# EAGLE library part MTFC4GMCDM (library circuit_tree)
IC
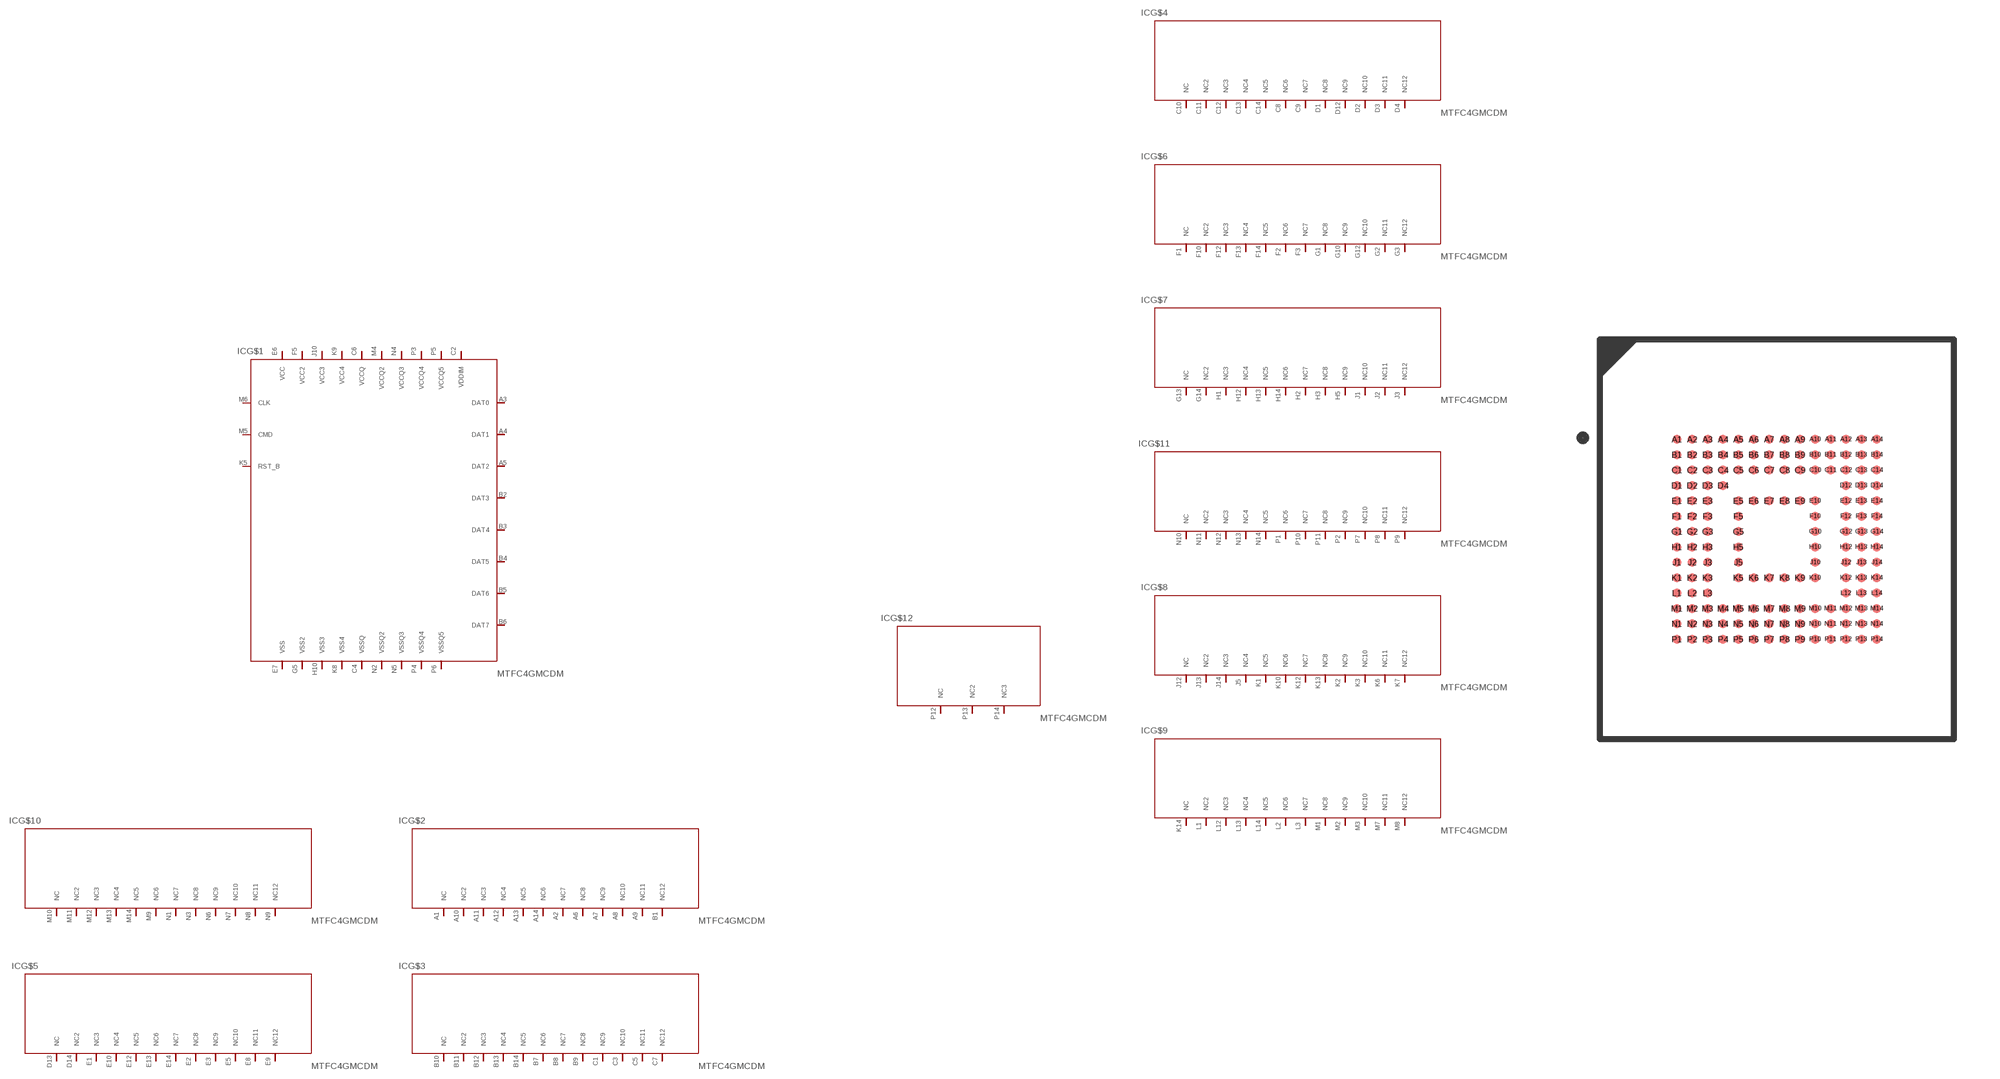
[diagram p4: symbol with the pads of TFBGA-153; footprint TFBGA-153]

Designator prefix IC; gates G$1=MTFC4GMCDM G$2=MTFC4GMCDM2 G$3=MTFC4GMCDM3 G$4=MTFC4GMCDM4 G$5=MTFC4GMCDM5 G$6=MTFC4GMCDM6 G$7=MTFC4GMCDM7 G$8=MTFC4GMCDM8 G$9=MTFC4GMCDM9 G$10=MTFC4GMCDM10 G$11=MTFC4GMCDM11 G$12=MTFC4GMCDM12

## MTFC4GMCDM  [TFBGA-153]
A1  G$2:NC  pas
A2  G$2:NC7  pas
A3  G$1:DAT0  pas
A4  G$1:DAT1  pas
A5  G$1:DAT2  pas
A6  G$2:NC8  pas
A7  G$2:NC9  pas
A8  G$2:NC10  pas
A9  G$2:NC11  pas
A10  G$2:NC2  pas
A11  G$2:NC3  pas
A12  G$2:NC4  pas
A13  G$2:NC5  pas
A14  G$2:NC6  pas
B1  G$2:NC12  pas
B2  G$1:DAT3  pas
B3  G$1:DAT4  pas
B4  G$1:DAT5  pas
B5  G$1:DAT6  pas
B6  G$1:DAT7  pas
B7  G$3:NC6  pas
B8  G$3:NC7  pas
B9  G$3:NC8  pas
B10  G$3:NC  pas
B11  G$3:NC2  pas
B12  G$3:NC3  pas
B13  G$3:NC4  pas
B14  G$3:NC5  pas
C1  G$3:NC9  pas
C2  G$1:VDDIM  pas
C3  G$3:NC10  pas
C4  G$1:VSSQ  pas
C5  G$3:NC11  pas
C6  G$1:VCCQ  pas
C7  G$3:NC12  pas
C8  G$4:NC6  pas
C9  G$4:NC7  pas
C10  G$4:NC  pas
C11  G$4:NC2  pas
C12  G$4:NC3  pas
C13  G$4:NC4  pas
C14  G$4:NC5  pas
D1  G$4:NC8  pas
D2  G$4:NC10  pas
D3  G$4:NC11  pas
D4  G$4:NC12  pas
D12  G$4:NC9  pas
D13  G$5:NC  pas
D14  G$5:NC2  pas
E1  G$5:NC3  pas
E2  G$5:NC8  pas
E3  G$5:NC9  pas
E5  G$5:NC10  pas
E6  G$1:VCC  pas
E7  G$1:VSS  pas
E8  G$5:NC11  pas
E9  G$5:NC12  pas
E10  G$5:NC4  pas
E12  G$5:NC5  pas
E13  G$5:NC6  pas
E14  G$5:NC7  pas
F1  G$6:NC  pas
F2  G$6:NC6  pas
F3  G$6:NC7  pas
F5  G$1:VCC2  pas
F10  G$6:NC2  pas
F12  G$6:NC3  pas
F13  G$6:NC4  pas
F14  G$6:NC5  pas
G1  G$6:NC8  pas
G2  G$6:NC11  pas
G3  G$6:NC12  pas
G5  G$1:VSS2  pas
G10  G$6:NC9  pas
G12  G$6:NC10  pas
G13  G$7:NC  pas
G14  G$7:NC2  pas
H1  G$7:NC3  pas
H2  G$7:NC7  pas
H3  G$7:NC8  pas
H5  G$7:NC9  pas
H10  G$1:VSS3  pas
H12  G$7:NC4  pas
H13  G$7:NC5  pas
H14  G$7:NC6  pas
J1  G$7:NC10  pas
J2  G$7:NC11  pas
J3  G$7:NC12  pas
J5  G$8:NC4  pas
J10  G$1:VCC3  pas
J12  G$8:NC  pas
J13  G$8:NC2  pas
J14  G$8:NC3  pas
K1  G$8:NC5  pas
K2  G$8:NC9  pas
K3  G$8:NC10  pas
K5  G$1:RST_B  pas
K6  G$8:NC11  pas
K7  G$8:NC12  pas
K8  G$1:VSS4  pas
K9  G$1:VCC4  pas
K10  G$8:NC6  pas
K12  G$8:NC7  pas
K13  G$8:NC8  pas
K14  G$9:NC  pas
L1  G$9:NC2  pas
L2  G$9:NC6  pas
L3  G$9:NC7  pas
L12  G$9:NC3  pas
L13  G$9:NC4  pas
L14  G$9:NC5  pas
M1  G$9:NC8  pas
M2  G$9:NC9  pas
M3  G$9:NC10  pas
M4  G$1:VCCQ2  pas
M5  G$1:CMD  pas
M6  G$1:CLK  pas
M7  G$9:NC11  pas
M8  G$9:NC12  pas
M9  G$10:NC6  pas
M10  G$10:NC  pas
M11  G$10:NC2  pas
M12  G$10:NC3  pas
M13  G$10:NC4  pas
M14  G$10:NC5  pas
N1  G$10:NC7  pas
N2  G$1:VSSQ2  pas
N3  G$10:NC8  pas
N4  G$1:VCCQ3  pas
N5  G$1:VSSQ3  pas
N6  G$10:NC9  pas
N7  G$10:NC10  pas
N8  G$10:NC11  pas
N9  G$10:NC12  pas
N10  G$11:NC  pas
N11  G$11:NC2  pas
N12  G$11:NC3  pas
N13  G$11:NC4  pas
N14  G$11:NC5  pas
P1  G$11:NC6  pas
P2  G$11:NC9  pas
P3  G$1:VCCQ4  pas
P4  G$1:VSSQ4  pas
P5  G$1:VCCQ5  pas
P6  G$1:VSSQ5  pas
P7  G$11:NC10  pas
P8  G$11:NC11  pas
P9  G$11:NC12  pas
P10  G$11:NC7  pas
P11  G$11:NC8  pas
P12  G$12:NC  pas
P13  G$12:NC2  pas
P14  G$12:NC3  pas

## Footprint TFBGA-153 (pad centres in mm)
smd 0.3 x 0.3: A1 -3.25,3.25; A2 -2.75,3.25; A3 -2.25,3.25; A4 -1.75,3.25; A5 -1.25,3.25; A6 -0.75,3.25; A7 -0.25,3.25; A8 0.25,3.25; A9 0.75,3.25; A10 1.25,3.25; A11 1.75,3.25; A12 2.25,3.25; A13 2.75,3.25; A14 3.25,3.25; B1 -3.25,2.75; B2 -2.75,2.75; B3 -2.25,2.75; B4 -1.75,2.75; B5 -1.25,2.75; B6 -0.75,2.75; B7 -0.25,2.75; B8 0.25,2.75; B9 0.75,2.75; B10 1.25,2.75; B11 1.75,2.75; B12 2.25,2.75; B13 2.75,2.75; B14 3.25,2.75; C1 -3.25,2.25; C2 -2.75,2.25; C3 -2.25,2.25; C4 -1.75,2.25; C5 -1.25,2.25; C6 -0.75,2.25; C7 -0.25,2.25; C8 0.25,2.25; C9 0.75,2.25; C10 1.25,2.25; C11 1.75,2.25; C12 2.25,2.25; C13 2.75,2.25; C14 3.25,2.25; D1 -3.25,1.75; D2 -2.75,1.75; D3 -2.25,1.75; D4 -1.75,1.75; D12 2.25,1.75; D13 2.75,1.75; D14 3.25,1.75; E1 -3.25,1.25; E2 -2.75,1.25; E3 -2.25,1.25; E5 -1.25,1.25; E6 -0.75,1.25; E7 -0.25,1.25; E8 0.25,1.25; E9 0.75,1.25; E10 1.25,1.25; E12 2.25,1.25; E13 2.75,1.25; E14 3.25,1.25; F1 -3.25,0.75; F2 -2.75,0.75; F3 -2.25,0.75; F5 -1.25,0.75; F10 1.25,0.75; F12 2.25,0.75; F13 2.75,0.75; F14 3.25,0.75; G1 -3.25,0.25; G2 -2.75,0.25; G3 -2.25,0.25; G5 -1.25,0.25; G10 1.25,0.25; G12 2.25,0.25; G13 2.75,0.25; G14 3.25,0.25; H1 -3.25,-0.25; H2 -2.75,-0.25; H3 -2.25,-0.25; H5 -1.25,-0.25; H10 1.25,-0.25; H12 2.25,-0.25; H13 2.75,-0.25; H14 3.25,-0.25; J1 -3.25,-0.75; J2 -2.75,-0.75; J3 -2.25,-0.75; J5 -1.25,-0.75; J10 1.25,-0.75; J12 2.25,-0.75; J13 2.75,-0.75; J14 3.25,-0.75; K1 -3.25,-1.25; K2 -2.75,-1.25; K3 -2.25,-1.25; K5 -1.25,-1.25; K6 -0.75,-1.25; K7 -0.25,-1.25; K8 0.25,-1.25; K9 0.75,-1.25; K10 1.25,-1.25; K12 2.25,-1.25; K13 2.75,-1.25; K14 3.25,-1.25; L1 -3.25,-1.75; L2 -2.75,-1.75; L3 -2.25,-1.75; L12 2.25,-1.75; L13 2.75,-1.75; L14 3.25,-1.75; M1 -3.25,-2.25; M2 -2.75,-2.25; M3 -2.25,-2.25; M4 -1.75,-2.25; M5 -1.25,-2.25; M6 -0.75,-2.25; M7 -0.25,-2.25; M8 0.25,-2.25; M9 0.75,-2.25; M10 1.25,-2.25; M11 1.75,-2.25; M12 2.25,-2.25; M13 2.75,-2.25; M14 3.25,-2.25; N1 -3.25,-2.75; N2 -2.75,-2.75; N3 -2.25,-2.75; N4 -1.75,-2.75; N5 -1.25,-2.75; N6 -0.75,-2.75; N7 -0.25,-2.75; N8 0.25,-2.75; N9 0.75,-2.75; N10 1.25,-2.75; N11 1.75,-2.75; N12 2.25,-2.75; N13 2.75,-2.75; N14 3.25,-2.75; P1 -3.25,-3.25; P2 -2.75,-3.25; P3 -2.25,-3.25; P4 -1.75,-3.25; P5 -1.25,-3.25; P6 -0.75,-3.25; P7 -0.25,-3.25; P8 0.25,-3.25; P9 0.75,-3.25; P10 1.25,-3.25; P11 1.75,-3.25; P12 2.25,-3.25; P13 2.75,-3.25; P14 3.25,-3.25